# EAGLE library part CONN_7X1_JST_PA (library leaf)
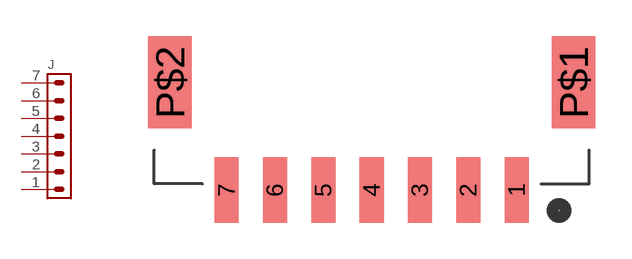
[diagram p6: symbol with the pads of CONN_7X1_JST_PA; footprint CONN_7X1_JST_PA]

Designator prefix J

## CONN_7X1_JST_PA  [CONN_7X1_JST_PA]
1  1
2  2
3  3
4  4
5  5
6  6
7  7

## Footprint CONN_7X1_JST_PA (pad centres in mm)
smd 1 x 2.7: 1 6,-9.15; 2 4,-9.15; 3 2,-9.15; 4 0,-9.15; 5 -2,-9.15; 6 -4,-9.15; 7 -6,-9.15
smd 1.8 x 3.8: P$1 8.35,-4.7; P$2 -8.35,-4.7